# Altium schematic symbol library 龙邱板插件.SchLib: 5 symbols
Pins are listed as number, name and electrical type; pins without a type are passive.

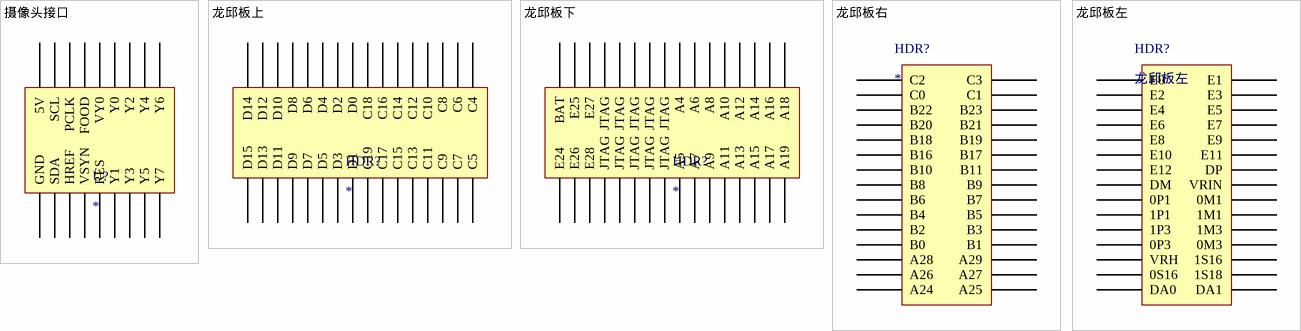
[diagram p0: symbols 摄像头接口 to 龙邱板左]

## 摄像头接口
designator U?
footprint HDR2X9_CEN (Connector; Header; 9x2 Position)
pins: 1 GND, 2 SDA, 3 HREF, 4 VSYN, 5 RES, 6 Y1, 7 Y3, 8 Y5, 9 Y7, 10 5V, 11 SCL, 12 PCLK, 13 FOOD, 14 VY0, 15 Y0, 16 Y2, 17 Y4, 18 Y6

## 龙邱板上
designator HDR?
footprint HDR2X16_CEN (Connector; Header; 16x2 Position)
pins: 1 D15, 2 D13, 3 D11, 4 D9, 5 D7, 6 D5, 7 D3, 8 D1, 9 C19, 10 C17, 11 C15, 12 C13, 13 C11, 14 C9, 15 C7, 16 C5, 17 D14, 18 D12, 19 D10, 20 D8, 21 D6, 22 D4, 23 D2, 24 D0, 25 C18, 26 C16, 27 C14, 28 C12, 29 C10, 30 C8, 31 C6, 32 C4

## 龙邱板下
designator HDR?
footprint HDR2X16_CEN (Connector; Header; 16x2 Position)
pins: 1 E24, 2 E26, 3 E28, 4 JTAG, 5 JTAG, 6 JTAG, 7 JTAG, 8 JTAG, 9 A5, 10 A7, 11 A9, 12 A11, 13 A13, 14 A15, 15 A17, 16 A19, 17 BAT, 18 E25, 19 E27, 20 JTAG, 21 JTAG, 22 JTAG, 23 JTAG, 24 JTAG, 25 A4, 26 A6, 27 A8, 28 A10, 29 A12, 30 A14, 31 A16, 32 A18

## 龙邱板右
designator HDR?
footprint HDR2X15_CEN (Connector; Header; 15x2 Position)
pins: 1 C2, 2 C0, 3 B22, 4 B20, 5 B18, 6 B16, 7 B10, 8 B8, 9 B6, 10 B4, 11 B2, 12 B0, 13 A28, 14 A26, 15 A24, 16 C3, 17 C1, 18 B23, 19 B21, 20 B19, 21 B17, 22 B11, 23 B9, 24 B7, 25 B5, 26 B3, 27 B1, 28 A29, 29 A27, 30 A25

## 龙邱板左
designator HDR?
footprint HDR2X15_CEN (Connector; Header; 15x2 Position)
pins: 1 E0, 2 E2, 3 E4, 4 E6, 5 E8, 6 E10, 7 E12, 8 DM, 9 0P1, 10 1P1, 11 1P3, 12 0P3, 13 VRH, 14 0S16, 15 DA0, 16 E1, 17 E3, 18 E5, 19 E7, 20 E9, 21 E11, 22 DP, 23 VRIN, 24 0M1, 25 1M1, 26 1M3, 27 0M3, 28 1S16, 29 1S18, 30 DA1